# EAGLE library part FLAT-FLEX-CONNECTOR-VERT-07POS (library FlashPCB_Connectors)
FLAT-FLEX-CONNECTOR-VERT-07POS - Flat Flex Connector 7 position Vertical Technical Specifications: Number of Positions: 7 Contact: One Side Mount: Vertical
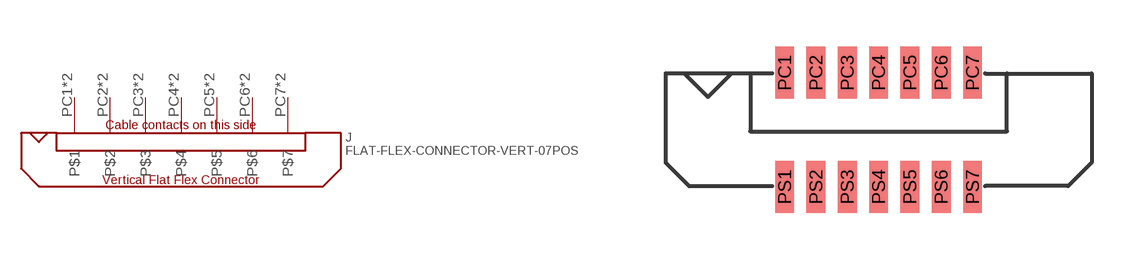
[diagram p121: symbol with the pads of FLAT-FLEX-CONNECTOR-MOLEX-52610-VERT-07POS; footprint FLAT-FLEX-CONNECTOR-MOLEX-52610-VERT-07POS]

Designator prefix J

## FLAT-FLEX-CONNECTOR-VERT-07POS1MM-PITCH  [FLAT-FLEX-CONNECTOR-MOLEX-52610-VERT-07POS]
PC1  P$1
PC2  P$2
PC3  P$3
PC4  P$4
PC5  P$5
PC6  P$6
PC7  P$7
PS1  P$1
PS2  P$2
PS3  P$3
PS4  P$4
PS5  P$5
PS6  P$6
PS7  P$7

## Footprint FLAT-FLEX-CONNECTOR-MOLEX-52610-VERT-07POS (pad centres in mm)
smd 0.6 x 1.65: PC1 -3,1.825; PC2 -2,1.825; PC3 -1,1.825; PC4 0,1.825; PC5 1,1.825; PC6 2,1.825; PC7 3,1.825; PS1 -3,-1.825; PS2 -2,-1.825; PS3 -1,-1.825; PS4 0,-1.825; PS5 1,-1.825; PS6 2,-1.825; PS7 3,-1.825